# Altium footprint library Cap_35SVPK180M.PcbLib: 1 footprints
Each footprint in its own frame and in the unit in brackets; x right, y up, seen from the top. Pads: shape width x height; smd on the part's side, far side on the other; paste and mask are expansions set on the pad; w line width, h text height; cw(c..) or ccw(c..) is an arc to the next point about the centre after c.
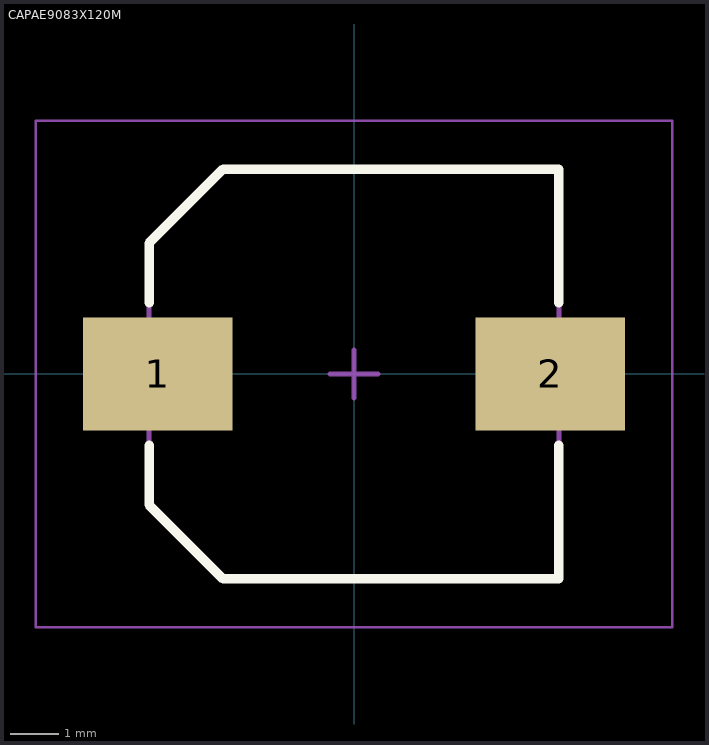
[diagram p0: the footprint, top view; thin cyan lines are the x and y axes]

## CAPAE9083X120M [mm] "Aluminum Electrolytic Capacitor, Body 8,30x8,30x12,00mm, IPC Low Density"
height 12
pads (2):
  rect 3.1x2.35 smd: 1(-4.075,0) 2(4.075,0)
Top Overlay:
  lines w0.2: -4.25,-1.475 -4.25,-2.713 -2.713,-4.25 4.25,-4.25 4.25,-1.475 ; -4.25,1.475 -4.25,2.712 -2.713,4.25 4.25,4.25 4.25,1.475
Mechanical 13:
  lines w0.1: -4.25,-2.713 -2.713,-4.25 4.25,-4.25 4.25,4.25 -2.713,4.25 -4.25,2.712 -4.25,-2.713
Mechanical 15:
  lines w0.05: -6.6,-5.25 -6.6,5.25 6.6,5.25 6.6,-5.25 -6.6,-5.25
  lines w0.1: -0.5,0 0.5,0 ; 0,-0.5 0,0.5
3D body: height 4, standoff 0, extent -4.25,-4.25 4.25,4.25
3D body: height 12, standoff 0, extent -4,-4 4,3.994